# EAGLE library part CLX6E-FKC-CH1M1D1BB7C3D3 (library CLX6E-FKC)
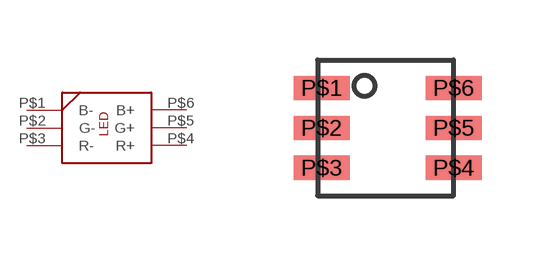
[diagram p0: symbol with the pads of CLX6E-FKC-CH1M1D1BB7C3D3; footprint CLX6E-FKC-CH1M1D1BB7C3D3]

Designator prefix -

## CLX6E-FKC-CH1M1D1BB7C3D3  [CLX6E-FKC-CH1M1D1BB7C3D3]
P$1  B-
P$2  G-
P$3  R-
P$4  R+
P$5  G+
P$6  B+

## Footprint CLX6E-FKC-CH1M1D1BB7C3D3 (pad centres in mm)
smd 1.4 x 0.6: P$1 0.7,-0.3; P$2 0.7,-1.3; P$3 0.7,-2.3; P$4 4,-2.3; P$5 4,-1.3; P$6 4,-0.3